# EAGLE library part 7-SEGMENT-X3 (library greg)
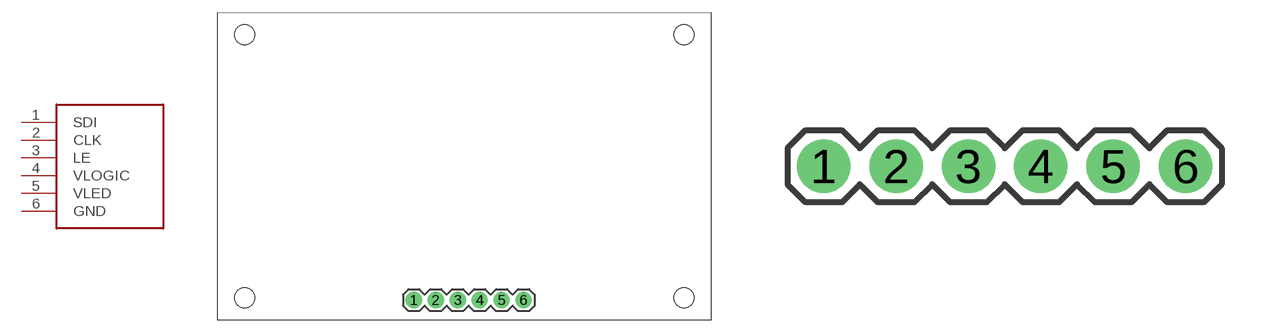
[diagram p11: symbol with the pads of 7-SEGMENT-X3; footprints 7-SEGMENT-X3, M06]

Designator prefix -

## 7-SEGMENT-X3WITH-LAYOUT  [7-SEGMENT-X3]
1  SDI
2  CLK
3  LE
4  VLOGIC
5  VLED
6  GND

## 7-SEGMENT-X3  [M06]
Pads as for 7-SEGMENT-X3

## Footprint 7-SEGMENT-X3 (pad centres in mm)
drill 1.016 pad 1.88: 1 -5.842,-15.494; 2 -3.302,-15.494; 3 -0.762,-15.494; 4 1.778,-15.494; 5 4.318,-15.494; 6 6.858,-15.494
hole 2.3 at -25.4,-15.24
hole 2.3 at -25.4,15.24
hole 2.3 at 25.4,15.24
hole 2.3 at 25.4,-15.24

## Footprint M06 (pad centres in mm)
drill 1.016 pad 1.88: 1 -6.35,0; 2 -3.81,0; 3 -1.27,0; 4 1.27,0; 5 3.81,0; 6 6.35,0